# Altium schematic symbol library LMK1C1102PWR.SchLib: 1 symbol
Pins are listed as number, name and electrical type; pins without a type are passive.

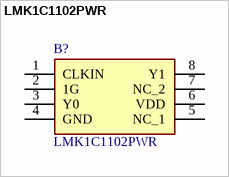
[diagram p0: symbol LMK1C1102PWR]

## LMK1C1102PWR
designator B?
Clock Buffer 2-channel output LVCMOS 1.8-V buffer 8-TSSOP -40 to 125; Manufacturer_Name: Texas Instruments; Geometry.Height: 1.2mm; Manufacturer_Part_Number: LMK1C1102PWR; Mouser Part Number: 595-LMK1C1102PWR; Mouser Price/Stock: https://www.mouser.co.uk/ProductDetail/Texas-Instruments/LMK1C1102PWR?qs=rI7uf1IzohQAH976VttrBg%3D%3D; Arrow Part Number: LMK1C1102PWR; Arrow Price/Stock: https://www.arrow.com/en/products/lmk1c1102pwr/texas-instruments?utm_currency=USD&region=nac; Datasheet Link: https://www.ti.com/lit/gpn/LMK1C1102
footprint SOP65P640X120-8N
pins: 1 CLKIN, 2 1G, 3 Y0, 4 GND, 5 NC_1, 6 VDD, 7 NC_2, 8 Y1